# EAGLE library part MCP3424 (library adc_18bits)
Analog-to-Digital Converter
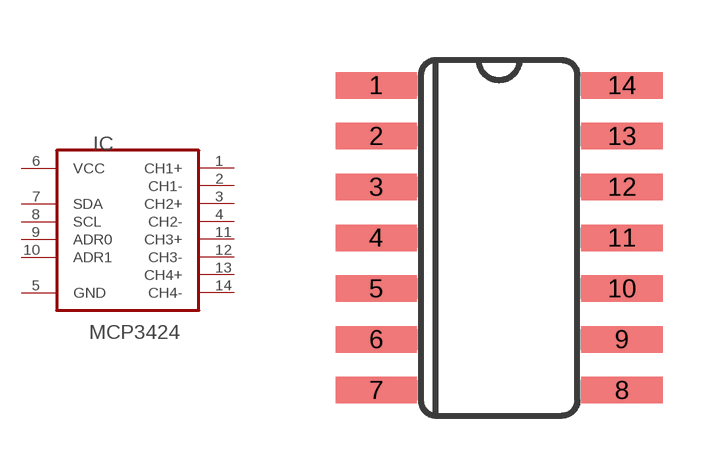
[diagram p0: symbol with the pads of SO14; footprint SO14]

Designator prefix IC

## MCP3424 (MPN: MCP3424-E/SL; OC_FARNELL: 1630424; OC_NEWARK: 54M4871; PACKAGE: SOIC-14; SUPPLIER: Microchip)  [SO14]
1  CH1+  in
2  CH1-  in
3  CH2+  in
4  CH2-  in
5  GND  pwr
6  VCC  pwr
7  SDA
8  SCL  in
9  ADR0  in
10  ADR1  in
11  CH3+  in
12  CH3-  in
13  CH4+  in
14  CH4-  in

## Footprint SO14 (pad centres in mm)
Small Outline package 150 mil
smd 2.032 x 0.66: 1 -3.073,3.81; 2 -3.073,2.54; 3 -3.073,1.27; 4 -3.073,0; 5 -3.073,-1.27; 6 -3.073,-2.54; 7 -3.073,-3.81; 8 3.073,-3.81; 9 3.073,-2.54; 10 3.073,-1.27; 11 3.073,0; 12 3.073,1.27; 13 3.073,2.54; 14 3.073,3.81